# Altium schematic symbol library FlexBMS_lib.schlib: 13 symbols
Pins are listed as number, name and electrical type; pins without a type are passive.

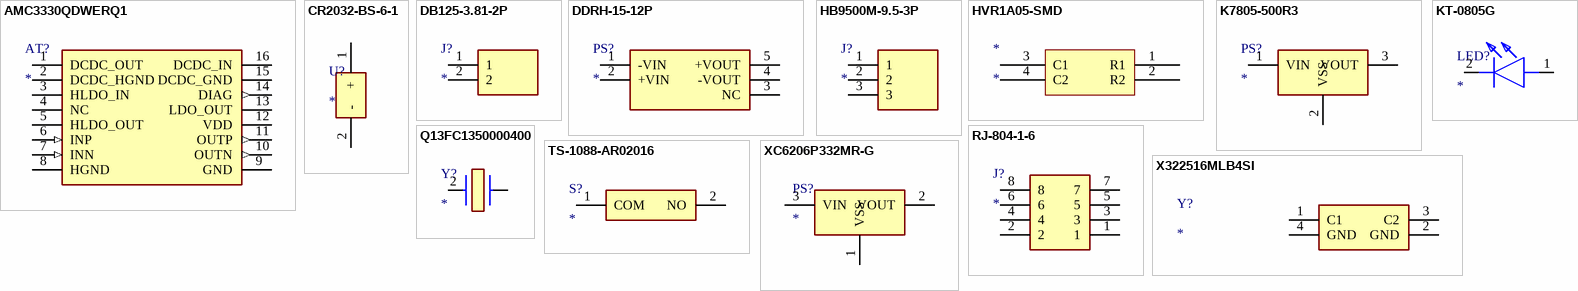
[diagram p0: symbols AMC3330QDWERQ1 to XC6206P332MR-G]

## AMC3330QDWERQ1
designator AT?
Attenuator or Isolator; Manufacturer_Name: Texas Instruments; Manufacturer_Part_Number: AMC3330QDWERQ1; Datasheet Link: https://www.ti.com/lit/ds/symlink/amc3330.pdf?ts=1605812770714&ref_url=https%253A%252F%252Fwww.ti.com%252Fsitesearch%252Fdocs%252Funiversalsearch.tsp%253FsearchTerm%253DAMC3330DWE; Height: 2.65mm; Mouser Part Number: 595-AMC3330QDWERQ1; Mouser Price/Stock: https://www.mouser.co.uk/ProductDetail/Texas-Instruments/AMC3330QDWERQ1?qs=81r%252BiQLm7BThq9fK1XpIYg%3D%3D; Arrow Part Number: AMC3330QDWERQ1; Arrow Price/Stock: https://www.arrow.com/en/products/amc3330qdwerq1/texas-instruments?utm_currency=USD&region=nac
footprint SOIC127P1030X265-16N
pins: 1 DCDC_OUT (power), 2 DCDC_HGND (power), 3 HLDO_IN (power), 4 NC, 5 HLDO_OUT (power), 6 INP (in), 7 INN (in), 8 HGND (power), 9 GND (power), 10 OUTN (out), 11 OUTP (out), 12 VDD (power), 13 LDO_OUT (power), 14 DIAG (out), 15 DCDC_GND (power), 16 DCDC_IN (power)

## CR2032-BS-6-1
designator U?
Undefined or Miscellaneous; Manufacturer_Name: Q&J; Manufacturer_Part_Number: CR2032-BS-6-1; Datasheet Link: https://datasheet.lcsc.com/szlcsc/Q-J-CR2032-BS-6-1_C70377.pdf; Height: 6mm
footprint CR2032BS61
pins: 1 +, 2 -

## DB125-3.81-2P
designator J?
Connector; Manufacturer_Name: Cixi Dibo Electronics Co.,LTD; Manufacturer_Part_Number: DB125-3.81-2P; Datasheet Link: https://datasheet.lcsc.com/szlcsc/1910111742_DIBO-DB125-3-81-2P_C395878.pdf; Height: 8.8mm
footprint SHDR2W80P0X381_1X2_802X740X880P
pins: 1, 2

## DDRH-15-12P
designator PS?
Power Supply; Manufacturer_Name: Mean Well; Manufacturer_Part_Number: DDRH-15-12P; Datasheet Link: https://www.meanwell.com/webapp/product/search.aspx?prod=DDRH-15; Height: 25.03mm; Arrow Part Number: DDRH-15-12P; Arrow Price/Stock: https://www.arrow.com/en/products/ddrh-15-12p/mean-well-enterprises?utm_currency=USD&region=nac
footprint DDRH1512P
pins: 1 -VIN, 2 +VIN, 3 NC, 4 -VOUT, 5 +VOUT

## HB9500M-9.5-3P
designator J?
Connector; Manufacturer_Name: Ningbo Kangnex; Manufacturer_Part_Number: HB9500M-9.5-3P; Datasheet Link: https://datasheet.lcsc.com/szlcsc/Ningbo-Kangnex-Elec-HB9500-3_C162697.pdf; Height: 13.2mm
footprint HB9500M953P
pins: 1, 2, 3

## HVR1A05-SMD
designator *
ComponentLink1Description: Datasheet; ComponentLink1URL: https://jlcpcb.com/api/file/downloadByFileSystemAccessId/8603384602715443200
footprint HVR1A05-SMD (Footprint not found)
pins: 1 R1 "Contactor 1", 2 R2 "Contactor 2", 3 C1 "Coil 1", 4 C2 "Coil 2"

## K7805-500R3
designator PS?
Power Supply; Manufacturer_Name: Mornsun Power; Manufacturer_Part_Number: K7805-500R3; Height: 10.41mm
footprint K7805500R3
pins: 1 VIN, 2 VSS, 3 VOUT

## KT-0805G
designator LED?
LED; Manufacturer_Name: Hubei KENTO Elec; Manufacturer_Part_Number: KT-0805G; Datasheet Link: https://jlcpcb.com/api/file/downloadByFileSystemAccessId/8639582106239348736; Height: 0.95mm
footprint KT0805G
pins: 1 A, 2 K

## Q13FC1350000400
designator Y?
Crystal or Oscillator; Manufacturer_Name: Seiko Epson Corporation; Manufacturer_Part_Number: Q13FC1350000400; Description: SMD Crystal Resonators 32.768KHz +/-20ppm SMD-3215_2P RoHS; Datasheet Link: https://datasheet.lcsc.com/szlcsc/1901081604_Seiko-Epson-Q13FC1350000400_C32346.pdf; Height: 0.9mm
footprint Q13FC1350000400
pins: 2 CRYSTAL_2, ?1

## RJ-804-1-6
designator J?
Connector; Manufacturer_Name: FG; Manufacturer_Part_Number: RJ-804-1-6; Datasheet Link: https://www.lcsc.com/datasheet/lcsc_datasheet_2306211558_FG-RJ-804-1-6_C7205183.pdf; Height: 11.7mm
footprint RJ80416
pins: 1, 2, 3, 4, 5, 6, 7, 8

## TS-1088-AR02016
designator S?
Switch; Manufacturer_Name: XUNPU; Manufacturer_Part_Number: TS-1088-AR02016; Description: Tact Switch; Datasheet Link: https://www.xunpudianzi.com/uploads/pdf/TS-1088-ARXXX.pdf; Height: 2mm
footprint TS1088AR02016
pins: 1 COM, 2 NO

## X322516MLB4SI
designator Y?
Crystal or Oscillator; Manufacturer_Name: Yangxing Tech; Manufacturer_Part_Number: X322516MLB4SI; Datasheet Link: https://datasheet.lcsc.com/szlcsc/Yangxing-Tech-X322516MLB4SI_C13738.pdf; Height: 0.8mm
footprint X322516MLB4SI
pins: 1 C1, 2 GND, 3 C2, 4 GND

## XC6206P332MR-G
designator PS?
Power Supply; Manufacturer_Name: Torex; Manufacturer_Part_Number: XC6206P332MR-G; Datasheet Link: https://www.torexsemi.com/file/xc6206/XC6206.pdf; Height: 1.3mm; Mouser Part Number: 865-XC6206P332MR-G; Mouser Price/Stock: https://www.mouser.co.uk/ProductDetail/Torex-Semiconductor/XC6206P332MR-G?qs=AsjdqWjXhJ%2FXxNpRY3zZ8g%3D%3D
footprint SOT95P280X130-3N
pins: 1 VSS (power), 2 VOUT (power), 3 VIN (power)